# Altium footprint library WT32_SC01.PCBLIB: 2 footprints
Each footprint in its own frame and in the unit in brackets; x right, y up, seen from the top. Pads: shape width x height; smd on the part's side, far side on the other; paste and mask are expansions set on the pad; w line width, h text height; cw(c..) or ccw(c..) is an arc to the next point about the centre after c.
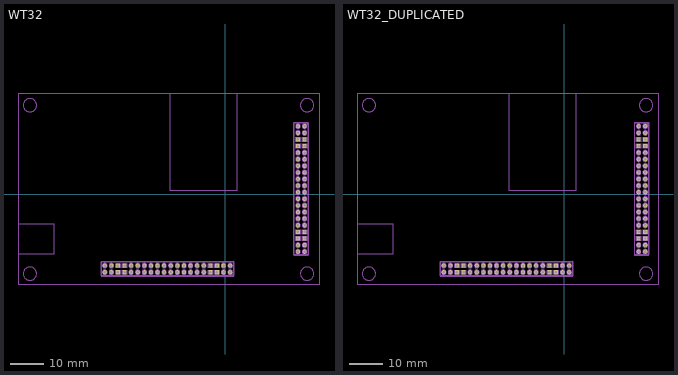
[diagram p0: the footprints below, top view; thin cyan lines are the x and y axes]

## WT32 [mil]
pads (80):
  round 49.53 hole 29.53: 3V3(-1356.69,-852.36) 3V3_2(-1357.09,-930.71) 3V3_3(-18.5,-852.36) 3V3_4(-18.5,-931.5) 3V3_5(868.5,-607.09) 3V3_6(947.64,-607.09) 3V3_7(868.5,731.1) 3V3_8(947.64,731.1) 5V(-1435.83,-852.76) 5V_2(-1435.43,-931.1) 5V_3(60.63,-852.36) 5V_4(60.63,-931.5) 5V_5(868.5,-686.22) 5V_6(947.64,-686.22) 5V_7(868.5,810.24) 5V_8(947.64,810.24) EN(-805.51,-852.36) EN_2(868.9,-56.3) IO0(-569.29,-852.36) IO0_2(868.5,180.32) IO2(-1041.73,-852.76) IO2_2(868.5,-292.13) IO4(-1120.47,-852.76) IO4_2(868.5,-371.26) IO5(-490.55,-852.36) IO5_2(868.5,258.66) IO12(-569.29,-931.1) IO12_2(947.64,180.32) IO13(-884.25,-852.76) IO13_2(868.9,-134.65) IO14(-490.55,-931.5) IO14_2(947.64,258.66) IO15(-962.99,-852.76) IO15_2(868.9,-213.78) IO21(-726.77,-931.1) IO21_2(948.03,22.83) IO22(-727.17,-852.76) IO22_2(868.9,22.83) IO23(-648.03,-852.76) IO23_2(868.5,101.18) IO25(-412.2,-852.36) IO25_2(868.5,337.8) IO26(-333.46,-852.36) IO26_2(868.5,416.54) IO27(-412.2,-931.5) IO27_2(947.64,337.8) IO32(-333.46,-931.5) IO32_2(947.64,416.54) IO33(-254.33,-931.5) IO33_2(947.64,495.67) IO34(-963.39,-931.5) IO34_2(948.03,-213.78) IO35(-254.33,-852.36) IO35_2(868.5,495.67) SCL(-883.86,-931.5) SCL_2(948.03,-134.65) SDA(-805.91,-931.5) SDA_2(948.03,-56.3) SENSOR_VN(-1042.13,-931.5) SENSOR_VN_2(947.64,-292.13) SENSOR_VP(-1120.87,-931.5) SENSOR_VP_2(947.64,-371.26) TXD(-648.43,-931.5) TXD_2(947.64,101.18)
  rect 49.53x49.53 / inner round 45.76 / far side rect 49.53x49.53 hole 29.53: GND(-1278.35,-852.36) GND_2(-1199.61,-852.36) GND_3(-1278.35,-931.1) GND_4(-1199.61,-931.1) GND_5(-175.98,-852.36) GND_6(-96.85,-852.76) GND_7(868.5,-528.74) GND_8(868.5,-450) GND_9(946.85,-528.74) GND_10(946.85,-450) GND_11(868.9,574.02) GND_12(867.72,652.36) GND_13(947.24,573.62) GND_14(947.24,651.97) P$7(-175.98,-931.1) P$8(-97.24,-930.71)
tPlace:
  drawing of 436 lines, arcs and shapes, not listed
bPlace:
  lines w0.04: 80.14,-976.26 80.14,-956.59 99.83,-956.59 ; 972.54,849.13 972.54,829.44 992.21,829.44 ; -2458.18,-715.83 -2458.18,-1080.4 1119.39,-1080.4 1119.39,1203.47 140.25,1203.47 ; -2458.18,-715.83 -2044.79,-715.83 -2044.79,-351.66 -2458.18,-351.66 ; -2458.18,-715.83 -2458.18,-351.66 ; -2458.18,-351.66 -2458.18,1203.47 -656.99,1203.47 ; -656.99,1203.47 140.25,1203.47 ; -656.99,1203.47 -656.99,42.05 140.25,42.05 140.25,1203.47 ; -1475.03,-976.35 -1475.03,-803.12 99.88,-803.03 99.88,-976.23 -1475.03,-976.35 ; -1474.76,-975.86 99.98,-975.86 99.98,-804.33 -1474.76,-804.33 -1474.76,-975.86 ; -1303.69,-956.95 -1252.5,-956.95 -1252.5,-905.77 -1303.69,-905.77 -1303.69,-956.95 ; -1303.69,-878.25 -1252.5,-878.25 -1252.5,-827.07 -1303.69,-827.07 -1303.69,-878.25 ; -1224.98,-956.95 -1173.8,-956.95 -1173.8,-905.77 -1224.98,-905.77 -1224.98,-956.95 ; -1224.98,-878.25 -1173.8,-878.25 -1173.8,-827.07 -1224.98,-827.07 -1224.98,-878.25 ; -201.28,-956.95 -150.1,-956.95 -150.1,-905.77 -201.28,-905.77 -201.28,-956.95 ; -201.28,-878.25 -150.1,-878.25 -150.1,-827.07 -201.28,-827.07 -201.28,-878.25 ; -122.58,-956.95 -71.4,-956.95 -71.4,-905.77 -122.58,-905.77 -122.58,-956.95 ; -122.58,-878.25 -71.4,-878.25 -71.4,-827.07 -122.58,-827.07 -122.58,-878.25 ; 818.98,849.17 819.06,-725.73 992.29,-725.73 992.17,849.17 818.98,849.17 ; 820.28,-725.46 991.81,-725.46 991.81,849.28 820.28,849.28 820.28,-725.46 ; 843.02,-554.39 894.2,-554.39 894.2,-503.21 843.02,-503.21 843.02,-554.39 ; 843.02,-475.69 894.2,-475.69 894.2,-424.51 843.02,-424.51 843.02,-475.69 ; 843.02,548.02 894.2,548.02 894.2,599.2 843.02,599.2 843.02,548.02 ; 843.02,626.72 894.2,626.72 894.2,677.9 843.02,677.9 843.02,626.72 ; 921.71,-554.39 972.9,-554.39 972.9,-503.21 921.71,-503.21 921.71,-554.39 ; 921.71,-475.69 972.9,-475.69 972.9,-424.51 921.71,-424.51 921.71,-475.69 ; 921.71,548.02 972.9,548.02 972.9,599.2 921.71,599.2 921.71,548.02 ; 921.71,626.72 972.9,626.72 972.9,677.9 921.71,677.9 921.71,626.72

## WT32_DUPLICATED [mm]
pads (80):
  round 1.258 hole 0.75: 3V3(-34.46,-21.65) 3V3_2(-34.47,-23.64) 3V3_3(-0.47,-21.65) 3V3_4(-0.47,-23.66) 3V3_5(22.56,-15.42) 3V3_6(24.57,-15.42) 3V3_7(22.56,18.57) 3V3_8(24.57,18.57) 5V(-36.47,-21.66) 5V_2(-36.46,-23.65) 5V_3(1.54,-21.65) 5V_4(1.54,-23.66) 5V_5(22.56,-17.43) 5V_6(24.57,-17.43) 5V_7(22.56,20.58) 5V_8(24.57,20.58) EN(-20.46,-21.65) EN_2(22.57,-1.43) IO0(-14.46,-21.65) IO0_2(22.56,4.58) IO2(-26.46,-21.66) IO2_2(22.56,-7.42) IO4(-28.46,-21.66) IO4_2(22.56,-9.43) IO5(-12.46,-21.65) IO5_2(22.56,6.57) IO12(-14.46,-23.65) IO12_2(24.57,4.58) IO13(-22.46,-21.66) IO13_2(22.57,-3.42) IO14(-12.46,-23.66) IO14_2(24.57,6.57) IO15(-24.46,-21.66) IO15_2(22.57,-5.43) IO21(-18.46,-23.65) IO21_2(24.58,0.58) IO22(-18.47,-21.66) IO22_2(22.57,0.58) IO23(-16.46,-21.66) IO23_2(22.56,2.57) IO25(-10.47,-21.65) IO25_2(22.56,8.58) IO26(-8.47,-21.65) IO26_2(22.56,10.58) IO27(-10.47,-23.66) IO27_2(24.57,8.58) IO32(-8.47,-23.66) IO32_2(24.57,10.58) IO33(-6.46,-23.66) IO33_2(24.57,12.59) IO34(-24.47,-23.66) IO34_2(24.58,-5.43) IO35(-6.46,-21.65) IO35_2(22.56,12.59) SCL(-22.45,-23.66) SCL_2(24.58,-3.42) SDA(-20.47,-23.66) SDA_2(24.58,-1.43) SENSOR_VN(-26.47,-23.66) SENSOR_VN_2(24.57,-7.42) SENSOR_VP(-28.47,-23.66) SENSOR_VP_2(24.57,-9.43) TXD(-16.47,-23.66) TXD_2(24.57,2.57)
  rect 1.258x1.258 / inner round 1.162 / far side rect 1.258x1.258 hole 0.75: GND(-32.47,-21.65) GND_2(-30.47,-21.65) GND_3(-32.47,-23.65) GND_4(-30.47,-23.65) GND_5(-4.47,-21.65) GND_6(-2.46,-21.66) GND_7(22.56,-13.43) GND_8(22.56,-11.43) GND_9(24.55,-13.43) GND_10(24.55,-11.43) GND_11(22.57,14.58) GND_12(22.54,16.57) GND_13(24.56,14.57) GND_14(24.56,16.56) P$7(-4.47,-23.65) P$8(-2.47,-23.64)
tPlace:
  drawing of 534 lines, arcs and shapes, not listed